# EAGLE library part ARDUINO_PRO_MINI (library alte_piese)
Arduino pro mini (with ATMEGA328)
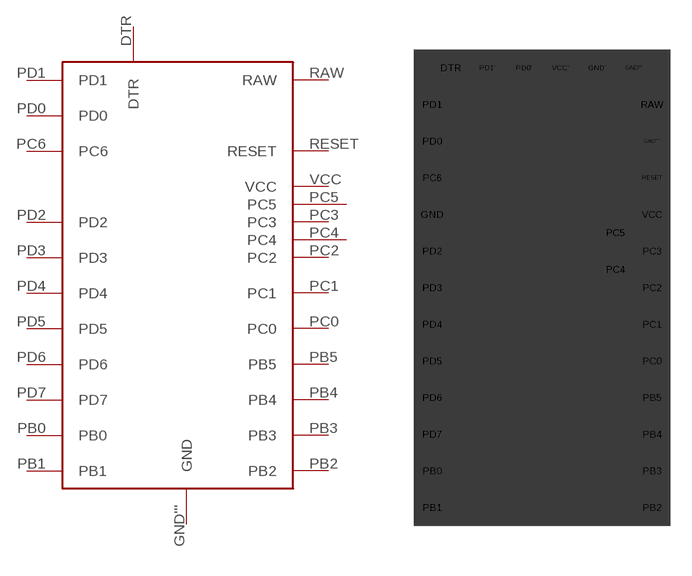
[diagram p0: symbol with the pads of ARDUINO_PRO_MINI; footprint ARDUINO_PRO_MINI]

Designator prefix -

## ARDUINO_PRO_MINI  [ARDUINO_PRO_MINI]
DTR  DTR
GND'''  GND  pwr
PB0  PB0
PB1  PB1
PB2  PB2
PB3  PB3
PB4  PB4
PB5  PB5
PC0  PC0
PC1  PC1
PC2  PC2
PC3  PC3
PC4  PC4
PC5  PC5
PC6  PC6
PD0  PD0
PD1  PD1
PD2  PD2
PD3  PD3
PD4  PD4
PD5  PD5
PD6  PD6
PD7  PD7
RAW  RAW  pwr
RESET  RESET
VCC  VCC  pwr

## Footprint ARDUINO_PRO_MINI (pad centres in mm)
Arduino pro mini connection headers
drill 0.6 round: DTR -5.08,5.08; GND -6.35,-5.08; GND' 5.08,5.08; GND'' 7.62,5.08; GND''' 8.89,0; PB0 -6.35,-22.86; PB1 -6.35,-25.4; PB2 8.89,-25.4; PB3 8.89,-22.86; PB4 8.89,-20.32; PB5 8.89,-17.78; PC0 8.89,-15.24; PC1 8.89,-12.7; PC2 8.89,-10.16; PC3 8.89,-7.62; PC4 6.35,-8.89; PC5 6.35,-6.35; PC6 -6.35,-2.54; PD0 -6.35,0; PD0' 0,5.08; PD1 -6.35,2.54; PD1' -2.54,5.08; PD2 -6.35,-7.62; PD3 -6.35,-10.16; PD4 -6.35,-12.7; PD5 -6.35,-15.24; PD6 -6.35,-17.78; PD7 -6.35,-20.32; RAW 8.89,2.54; RESET 8.89,-2.54; VCC 8.89,-5.08; VCC' 2.54,5.08